# Altium schematic symbol library NEC1-Ethernet.SchLib: 12 symbols
Pins are listed as number, name and electrical type; pins without a type are passive.

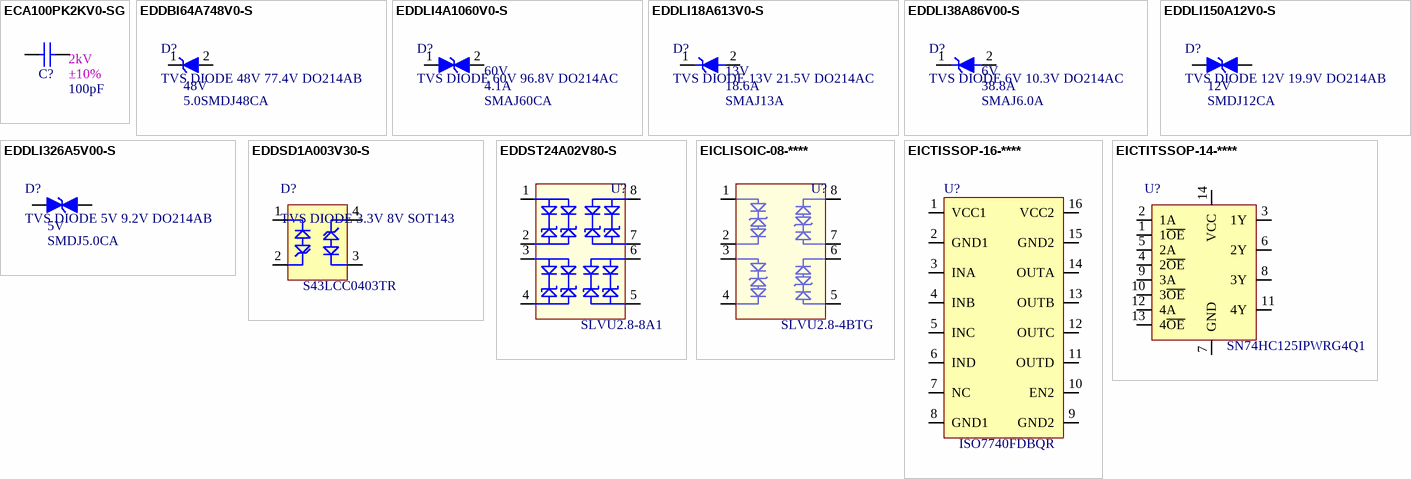
[diagram p0: symbols ECA100PK2KV0-SG to EICTITSSOP-14-****]

## ECA100PK2KV0-SG
designator C?, comment value 100pF  1st Auxiliary Field: 2kV  2nd Auxiliary Field: ±10%  (hidden comment: CAP CER 100PF 2000V X7R 1206)
Manufacturer: Würth Elektronik; Manufacturer Part Number: 885342208022; Internal Part Number: ECA100PK2KV0-SG; Vendor Part Number: 732-12142-1-ND; Component Height (mm): 1.35mm; 3rd Auxiliary Field: ROHS3 Compliant; Temp Co: -55°C ~ 125°C; Vendor Name: Digi-Key; Part Type: CAP CER 100PF 2000V X7R 1206; 4th Auxiliary Field: *
footprint SMDC1206 (Footprint not found)
pins: 1, 2

## EDDBI64A748V0-S
designator D?, comment TVS DIODE 48V 77.4V DO214AB  value 5.0SMDJ48CA  1st Auxiliary Field: 48V
Internal Part Number: EDDBI64A748V0-S; Manufacturer: Bourns Inc.; Vendor Part Number: 5.0SMDJ48CABBCT-ND; 2nd Auxiliary Field: 64.7A; 3rd Auxiliary Field: ROHS3 Compliant; Component Height (mm): 2.62mm; Temp Co: -55°C ~ 150°C; Vendor Name: Digi-Key; 4th Auxiliary Field: *; Manufacturer Part Number: 5.0SMDJ48CA; Part Type: TVS DIODE 48V 77.4V DO214AB
footprint DIOM711X622X262
pins: 1 K, 2 A

## EDDLI4A1060V0-S
designator D?, comment TVS DIODE 60V 96.8V DO214AC  value SMAJ60CA  2nd Auxiliary Field: 4.1A  1st Auxiliary Field: 60V
Internal Part Number: EDDLI4A1060V0-S; Manufacturer: Littelfuse Inc.; Vendor Part Number: SMAJ60CALFCT-ND; 3rd Auxiliary Field: ROHS3 Compliant; Component Height (mm): 2.29mm; Temp Co: -65°C ~ 150°C (TJ); Vendor Name: Digi-Key; 4th Auxiliary Field: *; Manufacturer Part Number: SMAJ60CA; Part Type: TVS DIODE 60V 96.8V DO214AC
footprint DIOM46276X229N (Molded Diode, 2-Leads, Body 4.40x3.62mm, IPC Medium Density)
pins: 1, 2

## EDDLI18A613V0-S
designator D?, comment TVS DIODE 13V 21.5V DO214AC  value SMAJ13A  2nd Auxiliary Field: 18.6A  1st Auxiliary Field: 13V
Internal Part Number: EDDLI18A613V0-S; Manufacturer: Littelfuse Inc.; Vendor Part Number: SMAJ13ALFCT-ND; 3rd Auxiliary Field: ROHS3 Compliant; Component Height (mm): 2.29mm; Temp Co: -65°C ~ 150°C (TJ); Vendor Name: Digi-Key; 4th Auxiliary Field: *; Manufacturer Part Number: SMAJ13A; Part Type: TVS DIODE 13V 21.5V DO214AC
footprint DIOM46276X229N (Molded Diode, 2-Leads, Body 4.40x3.62mm, IPC Medium Density)
pins: 1 K, 2 A

## EDDLI38A86V00-S
designator D?, comment TVS DIODE 6V 10.3V DO214AC  value SMAJ6.0A  2nd Auxiliary Field: 38.8A  1st Auxiliary Field: 6V
Internal Part Number: EDDLI38A86V00-S; Vendor Part Number: SMAJ6.0ALFCT-ND; Manufacturer: Littelfuse Inc.; 3rd Auxiliary Field: ROHS3 Compliant; Component Height (mm): 2.29mm; Temp Co: -65°C ~ 150°C (TJ); Vendor Name: Digi-Key; 4th Auxiliary Field: *; Part Type: TVS DIODE 6V 10.3V DO214AC; Manufacturer Part Number: SMAJ6.0A
footprint DIOM46276X229N (Molded Diode, 2-Leads, Body 4.40x3.62mm, IPC Medium Density)
pins: 1 K, 2 A

## EDDLI150A12V0-S
designator D?, comment TVS DIODE 12V 19.9V DO214AB  value SMDJ12CA  1st Auxiliary Field: 12V
Internal Part Number: EDDLI150A12V0-S; Manufacturer: Littelfuse Inc.; Vendor Part Number: SMDJ12CACT-ND; 2nd Auxiliary Field: 150.8A; 3rd Auxiliary Field: ROHS3 Compliant; Component Height (mm): 2.62mm; Temp Co: -65°C ~ 150°C; Vendor Name: Digi-Key; 4th Auxiliary Field: *; Manufacturer Part Number: SMDJ12CA; Part Type: TVS DIODE 12V 19.9V DO214AB
footprint DIOM711X622X262X420
pins: 1, 2

## EDDLI326A5V00-S
designator D?, comment TVS DIODE 5V 9.2V DO214AB  value SMDJ5.0CA  1st Auxiliary Field: 5V
Internal Part Number: EDDLI326A5V00-S; Vendor Part Number: SMDJ5.0CACT-ND; Manufacturer: Littelfuse Inc.; 3rd Auxiliary Field: ROHS3 Compliant; 2nd Auxiliary Field: 326.1A; Component Height (mm): 2.62mm; Temp Co: -65°C ~ 150°C; Vendor Name: Digi-Key; 4th Auxiliary Field: *; Part Type: TVS DIODE 5V 9.2V DO214AB; Manufacturer Part Number: SMDJ5.0CA
footprint DIOM711X622X262X420
pins: 1, 2

## EDDSD1A003V30-S
designator D?, comment TVS DIODE 3.3V 8V SOT143  value S43LCC0403TR
Internal Part Number: EDDSD1A003V30-S; Manufacturer: SMC Diode Solutions; Vendor Part Number: 1655-1905-1-ND; 2nd Auxiliary Field: 1A; 3rd Auxiliary Field: ROHS3 Compliant; Component Height (mm): 1.15mm; Temp Co: -55°C ~ 125°C; Vendor Name: Digi-Key; 4th Auxiliary Field: *; Manufacturer Part Number: S43LCC0403TR; Part Type: TVS DIODE 3.3V 8V SOT143; 1st Auxiliary Field: 3.3V
footprint SOT205PX445X115-4N
pins: 1, 2, 3, 4

## EDDST24A02V80-S
designator U?, comment value SLVU2.8-8A1  (hidden comment: TVS DIODE 2.8V 15V 8SOIC)
Manufacturer: STMicroelectronics; Internal Part Number: EDDST24A02V80-S; Vendor Part Number: 497-10116-1-ND; Component Height (mm): 1.75MM; 3rd Auxiliary Field: ROHS3 Compliant; Vendor Name: Digi-Key; Temp Co: -55°C ~ 150°C (TJ); 2nd Auxiliary Field: 24A; Manufacturer Part Number: SLVU2.8-8A1; Part Type: TVS DIODE 2.8V 15V 8SOIC; 4th Auxiliary Field: *; 1st Auxiliary Field: 2.8V
footprint SOIC127P490X390X175-8N (M25PE20-VMN6TP TR, IC FLASH 2MBIT 75MHZ 8SO)
pins: 1, 2, 3, 4, 5, 6, 7, 8

## EICLISOIC-08-****
designator U?, comment value SLVU2.8-4BTG  (hidden comment: TVS DIODE 2.8V 15V 8SOIC)
Manufacturer: Littelfuse Inc.; Internal Part Number: EICLISOIC-08-****; Vendor Part Number: F4206CT-ND; Component Height (mm): 1.75mm; 3rd Auxiliary Field: ROHS3 Compliant; Vendor Name: Digi-Key; Temp Co: -40°C ~ 125°C (TJ); 2nd Auxiliary Field: 40A; Manufacturer Part Number: SLVU2.8-4BTG; Part Type: TVS DIODE 2.8V 15V 8SOIC; 4th Auxiliary Field: *; 1st Auxiliary Field: 2.8V
footprint SOIC127P600X175-8N (Footprint not found)
pins: 1, 2, 3, 4, 5, 6, 7, 8

## EICTISSOP-16-****
designator U?, comment value ISO7740FDBQR  (hidden comment: DGTL ISO 3000VRMS 4CH GP 16SSOP)
Manufacturer: Texas Instruments; Vendor Part Number: 296-48139-1-ND; Internal Part Number: EICTISSOP-16-****; Vendor Name: Digi-Key; 3rd Auxiliary Field: ROHS3 Compliant; Component Height (mm): 2.65mm; Temp Co: -55°C ~ 125°C; 2nd Auxiliary Field: 100Mbps; 1st Auxiliary Field: 2.25V ~ 5.5V; Part Type: DGTL ISO 3000VRMS 4CH GP 16SSOP; Manufacturer Part Number: ISO7740FDBQR; 4th Auxiliary Field: *
footprint SOP635P620X175-16N (Footprint not found)
pins: 1 VCC1 (power), 2 GND1, 3 INA, 4 INB, 5 INC, 6 IND, 7 NC, 8 GND1 (power), 9 GND2 (power), 10 EN2, 11 OUTD, 12 OUTC, 13 OUTB, 14 OUTA, 15 GND2, 16 VCC2 (power)

## EICTITSSOP-14-****
designator U?, comment value SN74HC125IPWRG4Q1  (hidden comment: Buffers & Line Drivers Quad Bus Bfr Gates)
Internal Part Number: EICTITSSOP-14-****; Manufacturer: Texas Instruments; Vendor Part Number: 595-N74HC125IPWRG4Q1; 1st Auxiliary Field: 2V ~ 6V; 2nd Auxiliary Field: 7.8mA; 3rd Auxiliary Field: ROHS3 Compliant; Component Height (mm): 1.2(mm); Temp Co: -40°C ~ 85°C; Vendor Name: Mouser; 4th Auxiliary Field: *; Manufacturer Part Number: SN74HC125IPWRG4Q1; Part Type: Buffers & Line Drivers Quad Bus Bfr Gates
footprint SOP65P640X120-14N (TSOP, 14-Leads, Body 5.00x4.40mm, Pitch 0.65mm, IPC Medium Density)
pins: 1 1~{OE} , 2 1A, 3 1Y, 4 2~{OE}, 5 2A, 6 2Y, 7 GND, 8 3Y, 9 3A, 10 3~{OE}, 11 4Y, 12 4A, 13 4~{OE}, 14 VCC